# Altium schematic symbol library MULTITESTCARD V1I1.SchLib: 48 symbols (part 1 of 2)
Pins are listed as number, name and electrical type; pins without a type are passive.

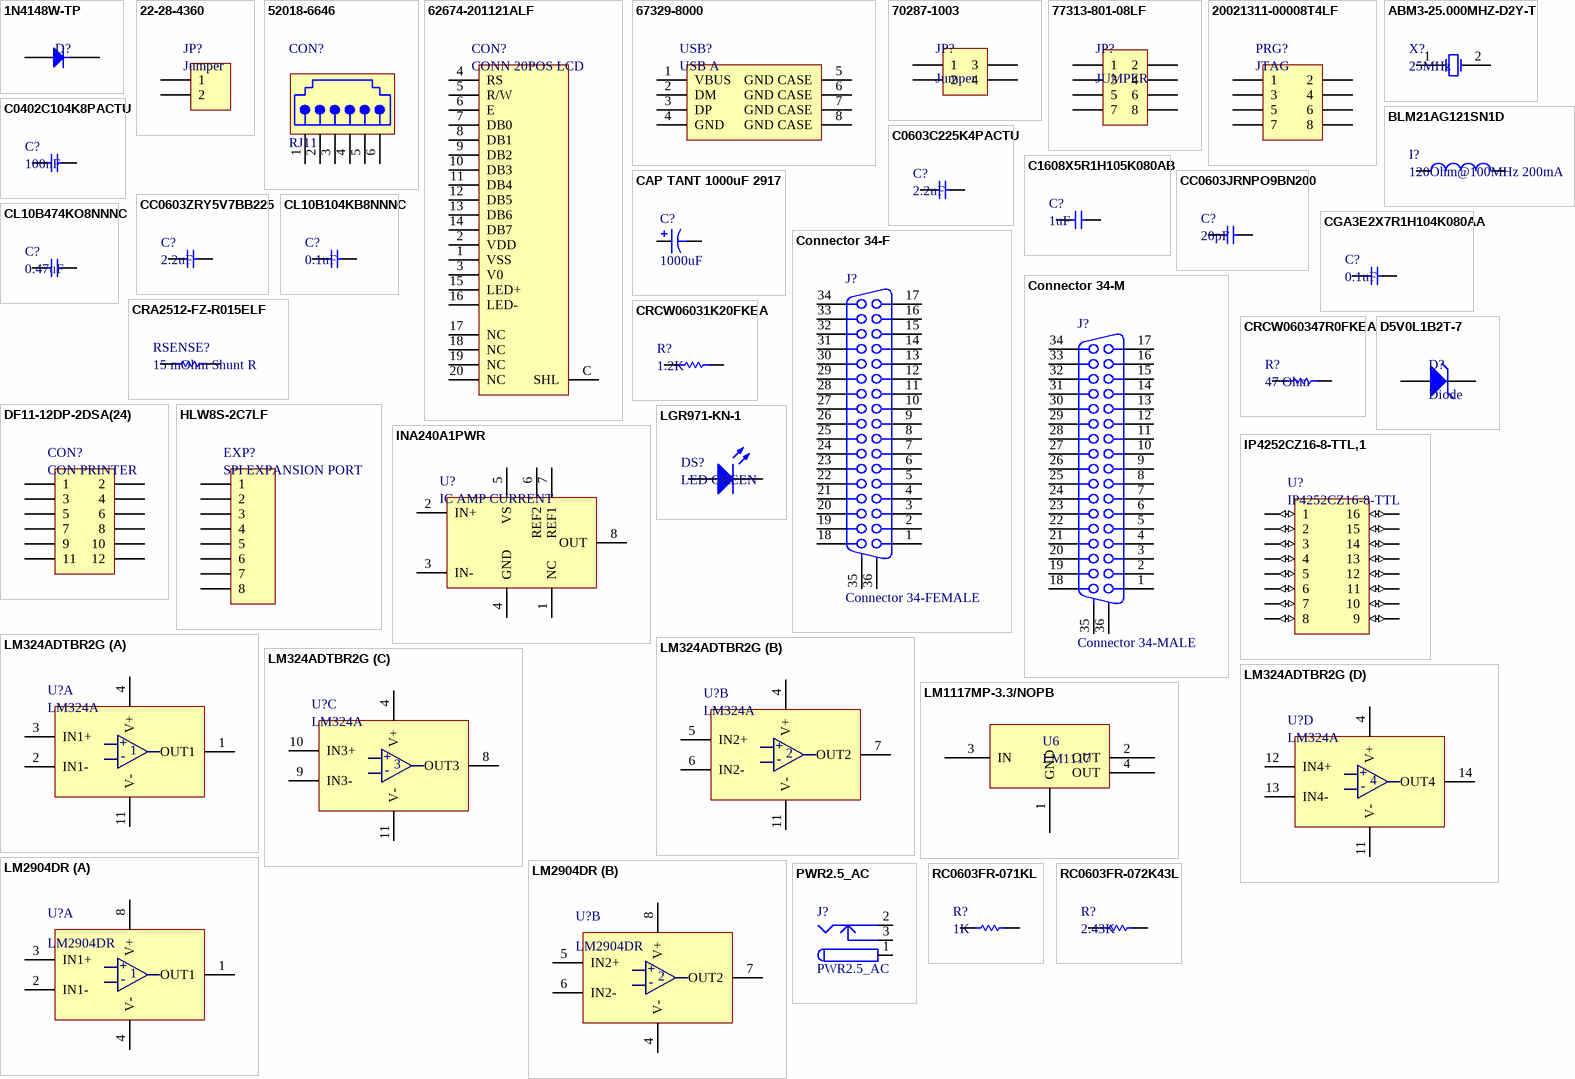
[diagram p0: symbols 1N4148W-TP to RC0603FR-072K43L]

## 1N4148W-TP
designator D?
DIODE SWITCH 100V 0.15A SOD123; Manufacturer: MCC; Manufacturer Part Number: 1N4148W-TP; Max Current Consumption: 1uA; Max Surge Current: 2A; Forward Voltage: 1V; Forward Current: 150mA; Recovery Time: 4ns; Max Reverse Leakage Current: 5uA; Power Dissipation: 400mW; Max Forward Surge Current (Ifsm): 1A; Element Configuration: Single; Polarity: Standard; Capacitance: 4pF; Supplier 1: Digi-Key; Supplier Part Number 1: 1N4148WTPMSCT-ND; Stock 1: 337039; Pricing 1: 1=0.17, 10=0.158, 100=0.066, 500=0.0518, 1000=0.036 (USD); Mount: Surface Mount; Number of Pins: 2; Min Operating Temperature: -65°C; Max Operating Temperature: 150°C; Packaging: Tape and Reel; Package Quantity: 3000; Average Rectified Current: 150mA; Reverse Recovery Time: 4ns; Max Repetitive Reverse Voltage (Vrrm): 100V; Peak Non-Repetitive Surge Current: 2A; Voltage Rating (DC): 100V; Current Rating: 150mA; Output Current: 150mA; Max Reverse Voltage (DC): 100V; Length: 2.85mm; Width: 1.8mm; Height: 1.2mm; Radiation Hardening: No; REACH SVHC: Unknown; Lead Free: Lead Free; ComponentLink1URL: http://www.farnell.com/datasheets/1684829.pdf?src-supplier=Newark; ComponentLink1Description: http://www.farnell.com/datasheets/1684829.pdf?src-supplier=Newark; ComponentLink2URL: http://www.mccsemi.com/up_pdf/1N4148W(SOD123).pdf?src-supplier=Future+Electronics; ComponentLink2Description: http://www.mccsemi.com/up_pdf/1N4148W(SOD123).pdf?src-supplier=Future+Electronics; ComponentLink3URL: http://www.mouser.com/ds/2/258/1N4148W(SOD123)-349435.pdf?src-supplier=Mouser; ComponentLink3Description: http://www.mouser.com/ds/2/258/1N4148W(SOD123)-349435.pdf?src-supplier=Mouser; ComponentLink4URL: http://www.alliedelec.com/images/products/datasheets/bm/MCC/70055519.pdf?src-supplier=Allied+Electronics; ComponentLink4Description: http://www.alliedelec.com/images/products/datasheets/bm/MCC/70055519.pdf?src-supplier=Allied+Electronics; ComponentLink5URL: http://www.mccsemi.com/up_pdf/1N4148W(SOD123).pdf?src-supplier=Digi-Key; ComponentLink5Description: http://www.mccsemi.com/up_pdf/1N4148W(SOD123).pdf?src-supplier=Digi-Key; ComponentLink6URL: http://www.farnell.com/datasheets/1684829.pdf?src-supplier=Element14; ComponentLink6Description: http://www.farnell.com/datasheets/1684829.pdf?src-supplier=Element14
simulation model 1N4149 (DIODE)
footprint SOD123 (SOD-123; 2 Leads; Body 2.7 x 1.6 mm, (LxW) Silk con marca en catodo)
pins: 1 A, 2 K

## 22-28-4360
designator JP?, comment Jumper
JUMPER 1x2 GLOVE, POLYAMIDE, L/FREE, PU, SIZE 6 - More Details; Manufacturer: Molex; Number of Positions: 36; Gender: Male; Contact Resistance: 20mR; Max Voltage Rating (AC): 250V; Current Rating: 4A; Max Voltage Rating (DC): 250.25kV; Pitch: 2.54mm; Glow Wire Compliant: Non-compliant; Supplier 1: Digi-Key; Manufacturer Part Number: 22-28-4360; Stock 1: 9848; Pricing 1: 1=1.02, 10=0.901, 100=0.7775, 500=0.6361, 1000=0.5654, 5000=0.4948, 10000=0.47 (USD); Mount: Through Hole; Contact Plating: Tin; Color: Black; Contact Material: Brass,Bronze; Housing Color: Black; Housing Material: Thermoplastic; Min Operating Temperature: 0°C; Max Operating Temperature: 75°C; Number of Rows: 1; Packaging: Bulk; Termination: Through Hole; Number of Contacts: 36; Orientation: Straight; Package Quantity: 250; Voltage Rating: 250V; Number of Circuits: 36; Max Current Rating: 4A; Voltage Rating (DC): 250V; Length: 91.44mm; Height: 8.38mm; Depth: 2.49mm; Radiation Hardening: No; Lead Free: Lead Free; REACH SVHC: Unknown; Flammability Rating: UL94 V-0; ComponentLink1URL: http://www.molex.com/webdocs/datasheets/pdf/en-us/0022284360_PCB_HEADERS.pdf?src-supplier=Avnet+Europe; ComponentLink1Description: http://www.molex.com/webdocs/datasheets/pdf/en-us/0022284360_PCB_HEADERS.pdf?src-supplier=Avnet+Europe; ComponentLink2URL: http://www.jameco.com/Jameco/Products/ProdDS/1966413.pdf?src-supplier=Jameco; ComponentLink2Description: http://www.jameco.com/Jameco/Products/ProdDS/1966413.pdf?src-supplier=Jameco; ComponentLink3URL: http://www.farnell.com/datasheets/1630959.pdf?src-supplier=Element14; ComponentLink3Description: http://www.farnell.com/datasheets/1630959.pdf?src-supplier=Element14; ComponentLink4URL: http://www.mouser.com/ds/2/276/0022284360_PCB_HEADERS-228390.pdf?src-supplier=Mouser; ComponentLink4Description: http://www.mouser.com/ds/2/276/0022284360_PCB_HEADERS-228390.pdf?src-supplier=Mouser; Supplier Part Number 1: WM50014-36-ND
footprint HDR1X2 (Connector; Header; 2 Position)
pins: 1, 2

## 52018-6646
designator CON?, comment RJ11
CONN MOD JACK R/A 6P6C; Manufacturer: Molex; Manufacturer Part Number: 52018-6646; Shielding: Unshielded; Number of Ports: 1; Number of Positions Loaded: 6; Connector Type: Socket; Gender: Female; Pitch: 2.04mm; Supplier 1: Digi-Key; Supplier Part Number 1: WM5465-ND; Stock 1: 8764; Pricing 1: 1=1.43, 10=1.294, 25=1.2144, 50=1.1616, 100=1.1088, 250=1.0032, 500=0.924, 1000=0.792, 2500=0.7392 (USD); Mount: Through Hole; Contact Material: Bronze; Contact Plating: Gold; Housing Color: Grey; Housing Material: Polyester; Color: Grey; Min Operating Temperature: -40°C; Max Operating Temperature: 80°C; Packaging: Tray; Package Quantity: 250; Termination: SMD/SMT; Number of Contacts: 6; Orientation: Right Angle; Number of Positions: 6; Length: 12.2mm; Depth: 13mm; Width: 13mm; Radiation Hardening: No; REACH SVHC: Unknown; Lead Free: Lead Free; Flammability Rating: UL94 V-0; ComponentLink1URL: https://www.verical.com/server-webapp/html/getDatasheet?partID=791748&src-supplier=Verical; ComponentLink1Description: https://www.verical.com/server-webapp/html/getDatasheet?partID=791748&src-supplier=Verical; ComponentLink2URL: http://www.jameco.com/Jameco/Products/ProdDS/801246.pdf?src-supplier=Jameco; ComponentLink2Description: http://www.jameco.com/Jameco/Products/ProdDS/801246.pdf?src-supplier=Jameco; ComponentLink3URL: http://www.molex.com/pdm_docs/sd/520188245_sd.pdf?src-supplier=Avnet; ComponentLink3Description: http://www.molex.com/pdm_docs/sd/520188245_sd.pdf?src-supplier=Avnet; ComponentLink4URL: http://www.onlinecomponents.com/productFiles/mf-MOL/520188245_sd.pdf?src-supplier=Onlinecomponents.com; ComponentLink4Description: http://www.onlinecomponents.com/productFiles/mf-MOL/520188245_sd.pdf?src-supplier=Onlinecomponents.com; ComponentLink5URL: http://www.mouser.com/ds/2/276/520186646_sd-208425.pdf?src-supplier=Mouser; ComponentLink5Description: http://www.mouser.com/ds/2/276/520186646_sd-208425.pdf?src-supplier=Mouser
signal-integrity model Modular Jack
footprint JACK1.02-2H6C (Connector; PCB Jack, Thru-Hole; 1-Port, 6 Positions, 6 Loaded; Unshielded without Lightpipes; Right Angle)
pins: 1, 2, 3, 4, 5, 6

## 62674-201121ALF
designator CON?, comment CONN 20POS LCD
CONN FFC VERT 20POS 0.50MM SMD; Manufacturer: Amphenol FCI; Manufacturer Part Number: 62674-201121ALF; Actuator Material: Plastic,Glass; Contact Resistance: 30mR; Voltage Rating: 50V; Current Rating: 500mA; Gender: Receptacle; Number of Positions: 20; Insulation Resistance: 100MR; Wire/Cable Type: Straight; Pitch: 1mm; Supplier 1: Digi-Key; Stock 1: 37230; Pricing 1: 1=0.74, 10=0.65, 25=0.6124, 50=0.5868, 100=0.5612, 250=0.5102, 500=0.4592 (USD); Mount: Surface Mount; Contact Material: Bronze; Contact Plating: Gold; Housing Color: Black; Housing Material: Resin; Min Operating Temperature: -55°C; Max Operating Temperature: 85°C; Number of Rows: 1; Packaging: Tape and Reel; Package Quantity: 1000; Termination: Solder; Max Voltage Rating (AC): 50V; Max Voltage Rating (DC): 50V; Number of Contacts: 20; Orientation: Straight; Length: 14.5mm; Depth: 2.95mm; Width: 2.95mm; Radiation Hardening: No; REACH SVHC: No SVHC; Lead Free: Lead Free; Flammability Rating: UL94 V-0; ComponentLink1URL: http://www.mouser.com/ds/2/154/62674-26092.pdf?src-supplier=Mouser; ComponentLink1Description: http://www.mouser.com/ds/2/154/62674-26092.pdf?src-supplier=Mouser; ComponentLink2URL: http://portal.fciconnect.com/Comergent//fci/drawing/62674.pdf?src-supplier=Digi-Key; ComponentLink2Description: http://portal.fciconnect.com/Comergent//fci/drawing/62674.pdf?src-supplier=Digi-Key; ComponentLink3URL: https://cdn.amphenol-icc.com/media/wysiwyg/files/drawing/62674.pdf?src-supplier=Digi-Key; ComponentLink3Description: https://cdn.amphenol-icc.com/media/wysiwyg/files/drawing/62674.pdf?src-supplier=Digi-Key; ComponentLink4URL: http://portal.fciconnect.com/Comergent/fci/drawing/62674.pdf?src-supplier=Avnet; ComponentLink4Description: http://portal.fciconnect.com/Comergent/fci/drawing/62674.pdf?src-supplier=Avnet; ComponentLink5URL: http://portal.fciconnect.com/Comergent/fci/drawing/62674.pdf?src-supplier=Avnet+Asia; ComponentLink5Description: http://portal.fciconnect.com/Comergent/fci/drawing/62674.pdf?src-supplier=Avnet+Asia; Supplier Part Number 1: 609-1207-1-ND
footprint CON20_1X20_DUT_58XF_GLE
pins: 1 VSS, 2 VDD, 3 V0, 4 RS, 5 R/W, 6 E, 7 DB0, 8 DB1, 9 DB2, 10 DB3, 11 DB4, 12 DB5, 13 DB6, 14 DB7, 15 LED+, 16 LED-, 17 NC, 18 NC, 19 NC, 20 NC, C SHL

## 67329-8000
designator USB?, comment USB A
Conn USB RCP 4 POS 1.4mm Solder RA Thru-Hole 4 Terminal 1 Port Tray; Manufacturer: Molex; Manufacturer Part Number: 67329-8000; Gender: Female; Connector Type: USB,Receptacle; Number of Ports: 1; Number of Contacts: 4; Current Rating: 1A; Voltage Rating: 30V; USB Standard: USB 2.0; Supplier 1: Digi-Key; Stock 1: 229; Pricing 1: 1=1.44, 10=1.264, 25=1.1896, 50=1.1398, 100=1.0903, 250=0.9912, 500=0.8921, 1000=0.793, 2500=0.7186 (USD); Mount: Through Hole; Contact Plating: Gold; Contact Material: Bronze; Number of Terminals: 4; Housing Material: Nylon; Color: Black; Housing Color: Black; Min Operating Temperature: 0°C; Max Operating Temperature: 40°C; Packaging: Tray; Termination: Solder; Orientation: Right Angle; Number of Positions: 4; Number of Rows: 2; Number of Circuits: 4; Length: 7mm; Pitch: 1.4mm; Depth: 13.68mm; Radiation Hardening: No; REACH SVHC: Unknown; Lead Free: Lead Free; Flammability Rating: UL94 V-0; ComponentLink1URL: http://www.mouser.com/ds/2/276/0673298000_IO_CONNECTORS-172152.pdf?src-supplier=Mouser; ComponentLink1Description: http://www.mouser.com/ds/2/276/0673298000_IO_CONNECTORS-172152.pdf?src-supplier=Mouser; ComponentLink2URL: http://www.onlinecomponents.com/productFiles/mf-MOL/1691700673298000_io_nectors.pdf?src-supplier=Onlinecomponents.com; ComponentLink2Description: http://www.onlinecomponents.com/productFiles/mf-MOL/1691700673298000_io_nectors.pdf?src-supplier=Onlinecomponents.com; ComponentLink3URL: http://www.molex.com/webdocs/datasheets/pdf/en-us/0673298000_IO_CONNECTORS.pdf?src-supplier=Avnet; ComponentLink3Description: http://www.molex.com/webdocs/datasheets/pdf/en-us/0673298000_IO_CONNECTORS.pdf?src-supplier=Avnet; ComponentLink4URL: http://uk.rs-online.com/webdocs/1380/0900766b81380101.pdf?src-supplier=RSComponents; ComponentLink4Description: http://uk.rs-online.com/webdocs/1380/0900766b81380101.pdf?src-supplier=RSComponents; ComponentLink5URL: https://www.verical.com/server-webapp/html/getDatasheet?partID=792148&src-supplier=Verical; ComponentLink5Description: https://www.verical.com/server-webapp/html/getDatasheet?partID=792148&src-supplier=Verical; Supplier Part Number 1: WM17136-ND
pins: 1 VBUS "Power", 2 DM "-DATA", 3 DP "+DATA", 4 GND (power) "Ground", 5 GND CASE "Shield", 6 GND CASE "Shield", 7 GND CASE "Shield", 8 GND CASE "Shield"

## 70287-1003
designator JP?, comment Jumper
Conn Unshrouded Header HDR 10 POS 2.54mm Solder ST Top Entry Thru-Hole C-Grid® Bag; Manufacturer: Molex; Manufacturer Part Number: 70287-1003; Current Rating: 3A; Voltage Rating: 250V; Contact Resistance: 10mR; Max Current Rating: 5.9A; Number of Positions: 10; Max Voltage Rating (AC): 450V; Glow Wire Compliant: Non-compliant; Supplier 1: Digi-Key; Stock 1: 3524; Pricing 1: 1=0.84, 10=0.698, 100=0.582, 1000=0.4656, 5000=0.4074, 10000=0.387 (USD); Mount: Through Hole; Contact Material: Brass,Bronze; Contact Plating: Tin,Gold; Housing Color: Black; Material: Brass; Housing Material: Thermoplastic; Min Operating Temperature: -40°C; Max Operating Temperature: 120°C; Package Quantity: 2000; Number of Rows: 2; Packaging: Bulk; Termination: Through Hole; Number of Contacts: 10; Orientation: Vertical; Number of Circuits: 10; Length: 12.7mm; Height: 5.72mm; Pitch: 2.54mm; Depth: 8.13mm; REACH SVHC: No SVHC; Halogen Free: Low Halogen; ELV: Compliant; Flammability Rating: UL94 V-0; ComponentLink1URL: http://www.mouser.com/ds/2/276/0702871003_PCB_HEADERS-150054.pdf?src-supplier=Mouser; ComponentLink1Description: http://www.mouser.com/ds/2/276/0702871003_PCB_HEADERS-150054.pdf?src-supplier=Mouser; ComponentLink2URL: http://datasheet.octopart.com/70287-1003-Molex-datasheet-13790154.pdf?src-supplier=Molex; ComponentLink2Description: http://datasheet.octopart.com/70287-1003-Molex-datasheet-13790154.pdf?src-supplier=Molex; ComponentLink3URL: http://sigma.octopart.com/15650698/technical_drawing/Molex-70287-1003.pdf?src-supplier=Molex; ComponentLink3Description: http://sigma.octopart.com/15650698/technical_drawing/Molex-70287-1003.pdf?src-supplier=Molex; ComponentLink4URL: http://datasheet.octopart.com/702871003-Molex-datasheet-8333985.pdf?src-supplier=Molex; ComponentLink4Description: http://datasheet.octopart.com/702871003-Molex-datasheet-8333985.pdf?src-supplier=Molex; ComponentLink5URL: http://datasheet.octopart.com/70287-1003-Molex-datasheet-140187473.pdf?src-supplier=Allied+Electronics; ComponentLink5Description: http://datasheet.octopart.com/70287-1003-Molex-datasheet-140187473.pdf?src-supplier=Allied+Electronics; ComponentLink6URL: http://datasheet.octopart.com/70287-1003-Molex-datasheet-27888229.pdf?src-supplier=Electro+Sonic; ComponentLink6Description: http://datasheet.octopart.com/70287-1003-Molex-datasheet-27888229.pdf?src-supplier=Electro+Sonic; ComponentLink7URL: http://datasheet.octopart.com/70287-1003-Molex-datasheet-62334276.pdf?src-supplier=Electro+Sonic; ComponentLink7Description: http://datasheet.octopart.com/70287-1003-Molex-datasheet-62334276.pdf?src-supplier=Electro+Sonic; ComponentLink8URL: http://datasheet.octopart.com/70287-1003-Molex-datasheet-120155493.pdf?src-supplier=Allied+Electronics; ComponentLink8Description: http://datasheet.octopart.com/70287-1003-Molex-datasheet-120155493.pdf?src-supplier=Allied+Electronics; Supplier Part Number 1: WM20411-ND
footprint HDR2X2 (Connector; Header; 2 Position)
pins: 1, 2, 3, 4

## 77313-801-08LF
designator JP?, comment JUMPER
Headers & Wire Housings 8P STR DR TMT HDR .38 AU .425IN LENGTH; Manufacturer: Amphenol FCI; Manufacturer Part Number: 77313-801-08LF; Number of Contacts: 8; Current Rating: 3A; Voltage Rating: 1.5kV; Insulation Resistance: 5GR; Gender: Male; Connector Type: Male Pin; Pitch: 2.54mm; Row Spacing: 0.1inch; Contact Post Length: 2.41mm; Supplier 1: Digi-Key; Stock 1: 0; Mount: Through Hole; Contact Plating: Gold,GXT; Color: Black; Contact Material: Bronze; Housing Color: Black; Housing Material: Thermoplastic; Min Operating Temperature: -65°C; Max Operating Temperature: 125°C; Number of Rows: 2; Termination: Solder; Package Quantity: 500; Packaging: Bulk; Contact Gender: Male; Number of Positions: 8; Max Voltage Rating (AC): 1.5kV; Orientation: Straight; Series: BERGSTIK®, MezzSelect™, Basics+; Contact Type: Male Pin; Length: 10.16mm; Contact Mating Length: 0.23inch; Depth: 4.83mm; Radiation Hardening: No; Lead Free: Lead Free; Flammability Rating: UL94 V-0; ComponentLink1URL: http://portal.fciconnect.com/Comergent//fci/drawing/77313.pdf?src-supplier=Digi-Key; ComponentLink1Description: http://portal.fciconnect.com/Comergent//fci/drawing/77313.pdf?src-supplier=Digi-Key; ComponentLink2URL: http://portal.fciconnect.com/Comergent/fci/drawing/77313.pdf?src-supplier=Avnet; ComponentLink2Description: http://portal.fciconnect.com/Comergent/fci/drawing/77313.pdf?src-supplier=Avnet; Supplier Part Number 1: 77313-801-08LF-ND
footprint HDR4X2 (Connector; Header; 8 Position)
pins: 1, 2, 3, 4, 5, 6, 7, 8

## 20021311-00008T4LF
designator PRG?, comment JTAG
CONN RCPT 8POS 0.05 GOLD PCB; Manufacturer: Amphenol FCI; Manufacturer Part Number: 20021311-00008T4LF; Contact Resistance: 30mR; Current Rating: 1A; Voltage Rating: 125V; Connector Type: Receptacle,Socket; Number of Positions: 8; Gender: Female; Pitch: 1.27mm; Row Spacing: 0.05inch; Stack Height: 4.3mm; Supplier 1: Digi-Key; Stock 1: 15145; Pricing 1: 1=0.76, 10=0.711, 106=0.5449, 530=0.4738, 1060=0.3909, 5088=0.3435, 10070=0.3198 (USD); Mount: Through Hole; Contact Plating: Gold; Contact Material: Copper Alloy; Color: Black; Housing Material: Plastic; Min Operating Temperature: -40°C; Max Operating Temperature: 85°C; Package Quantity: 106; Number of Rows: 2; Packaging: Rail/Tube; Termination: Solder; Max Voltage Rating (AC): 125V; Number of Contacts: 8; Orientation: Straight; Length: 3.81mm; Depth: 3mm; Radiation Hardening: No; ComponentLink1URL: https://media.digikey.com/pdf/Data%20Sheets/FCI%20PDFs/Minitek%20127_Catalog.pdf?src-supplier=Digi-Key; ComponentLink1Description: https://media.digikey.com/pdf/Data%20Sheets/FCI%20PDFs/Minitek%20127_Catalog.pdf?src-supplier=Digi-Key; ComponentLink2URL: http://portal.fciconnect.com/Comergent/fci/drawing/20021311.pdf?src-supplier=Avnet; ComponentLink2Description: http://portal.fciconnect.com/Comergent/fci/drawing/20021311.pdf?src-supplier=Avnet; ComponentLink3URL: http://portal.fciconnect.com/Comergent/fci/drawing/20021311.pdf?src-supplier=Avnet+Europe; ComponentLink3Description: http://portal.fciconnect.com/Comergent/fci/drawing/20021311.pdf?src-supplier=Avnet+Europe; ComponentLink4URL: http://portal.fciconnect.com/Comergent//fci/drawing/20021311.pdf?src-supplier=Mouser; ComponentLink4Description: http://portal.fciconnect.com/Comergent//fci/drawing/20021311.pdf?src-supplier=Mouser; Supplier Part Number 1: 609-3753-ND
footprint 20021311-00008T4LF (CONN RECEPT 8POS DUAL VERT T/H)
pins: 1, 2, 3, 4, 5, 6, 7, 8

## ABM3-25.000MHZ-D2Y-T
designator X?, comment 25MHz
CRYSTAL 25.0000MHZ 18PF SMD; Manufacturer: Abracon; Manufacturer Part Number: ABM3-25.000MHZ-D2Y-T; Frequency Tolerance: 20ppm; ESR (Equivalent Series Resistance): 30R; Frequency Stability: 30ppm; Supplier 1: Digi-Key; Stock 1: 27285; Pricing 1: 1=0.73, 10=0.605, 50=0.5446, 100=0.484, 500=0.4598 (USD); Mount: Surface Mount; Case/Package: CSMD; Number of Pins: 2; Min Operating Temperature: -40°C; Max Operating Temperature: 85°C; Frequency: 25MHz; Load Capacitance: 18pF; Tolerance: 20ppm; Packaging: Tape and Reel; Package Quantity: 1000; Termination: SMD/SMT; Composition: Ceramic; Series Resistance: 30R; Length: 5mm; Height: 0.051inch; Width: 3.2mm; Depth: 3.2mm; REACH SVHC: Yes; Lead Free: Lead Free; ComponentLink1URL: http://www.abracon.com/Resonators/abm3.pdf?src-supplier=Future+Electronics; ComponentLink1Description: http://www.abracon.com/Resonators/abm3.pdf?src-supplier=Future+Electronics; ComponentLink2URL: https://abracon.com/Resonators/abm3.pdf?src-supplier=Digi-Key; ComponentLink2Description: https://abracon.com/Resonators/abm3.pdf?src-supplier=Digi-Key; ComponentLink3URL: http://www.farnell.com/datasheets/1754353.pdf?src-supplier=Element14; ComponentLink3Description: http://www.farnell.com/datasheets/1754353.pdf?src-supplier=Element14; Supplier Part Number 1: 535-10645-6-ND
footprint ABM3 CRYSTAL (CRYSTAL 25MHZ 18PF SMD (535-10645-1-ND))
pins: 1 OSC1, 2 OSC2

## BLM21AG121SN1D
designator I?, comment 120Ohm@100MHz 200mA
FERRITE BEAD 120 OHM 0805 1LN; Manufacturer: Murata; Manufacturer Part Number: BLM21AG121SN1D; Resistance: 150mR; Impedance: 120R; Tolerance: 25%; Current Rating: 800mA; Max Current Rating: 1A; DC Resistance (DCR): 100mR; Test Frequency: 100MHz; Number of Lines: 1; Shielding: Unshielded; Supplier 1: Digi-Key; Stock 1: 40999; Pricing 1: 1=0.15, 10=0.119, 25=0.0924, 50=0.0766, 100=0.066, 250=0.0528, 500=0.0475, 1000=0.0396 (USD); Case/Package: 0805; Number of Pins: 2; Core Material: Ferrite; Case Code (Metric): 2012; Case Code (Imperial): 0805; Material: Steel,Ferrite; Min Operating Temperature: -55°C; Max Operating Temperature: 125°C; Package Quantity: 1; Packaging: Tape and Reel; Max DC Current: 200mA; Termination: SMD/SMT; DC Current: 200mA; Military Standard: Not; Frequency: 100MHz; Number of Circuits: 1; Length: 2mm; Height: 0.85mm; Width: 1.25mm; Depth: 1.25mm; Radiation Hardening: No; REACH SVHC: No SVHC; Lead Free: Lead Free; ComponentLink1URL: http://www.farnell.com/datasheets/1914683.pdf?src-supplier=Farnell; ComponentLink1Description: http://www.farnell.com/datasheets/1914683.pdf?src-supplier=Farnell; ComponentLink2URL: http://search.murata.co.jp/Ceramy/image/img/PDF/ENG/L0110S0100BLM21A.pdf?src-supplier=Future+Electronics; ComponentLink2Description: http://search.murata.co.jp/Ceramy/image/img/PDF/ENG/L0110S0100BLM21A.pdf?src-supplier=Future+Electronics; ComponentLink3URL: https://www.murata.com/en-us/products/productdata/8796738977822/ENFA0005.pdf?src-supplier=Avnet; ComponentLink3Description: https://www.murata.com/en-us/products/productdata/8796738977822/ENFA0005.pdf?src-supplier=Avnet; ComponentLink4URL: https://www.murata.com/en-us/products/productdata/8796738977822/ENFA0005.pdf?src-supplier=Avnet+Europe; ComponentLink4Description: https://www.murata.com/en-us/products/productdata/8796738977822/ENFA0005.pdf?src-supplier=Avnet+Europe; ComponentLink5URL: https://www.murata.com/en-us/products/productdata/8796738977822/ENFA0005.pdf?src-supplier=Digi-Key; ComponentLink5Description: https://www.murata.com/en-us/products/productdata/8796738977822/ENFA0005.pdf?src-supplier=Digi-Key; ComponentLink6URL: http://www.produktinfo.conrad.com/datenblaetter/1100000-1199999/001172324-da-01-en-DROSSEL_0805_120R_2_0X1_25MM_4000ST.pdf?src-supplier=Conrad; ComponentLink6Description: http://www.produktinfo.conrad.com/datenblaetter/1100000-1199999/001172324-da-01-en-DROSSEL_0805_120R_2_0X1_25MM_4000ST.pdf?src-supplier=Conrad; ComponentLink7URL: http://www.produktinfo.conrad.com/datenblaetter/425000-449999/442447-da-01-en-CHIP_DROSSEL_0805_120R_200MA_2_0X1_25MM.pdf?src-supplier=Conrad; ComponentLink7Description: http://www.produktinfo.conrad.com/datenblaetter/425000-449999/442447-da-01-en-CHIP_DROSSEL_0805_120R_200MA_2_0X1_25MM.pdf?src-supplier=Conrad; Supplier Part Number 1: 490-1038-1-ND
footprint L-0805 (0.079" L x 0.049" W (2.00mm x 1.25mm))
pins: 1, 2

## C0402C104K8PACTU
designator C?, comment 100nF
CAP 100 nF 10 VDC 0402; Manufacturer: KEMET; Manufacturer Part Number: C0402C104K8PACTU; Dielectric Material: Ceramic; Tolerance: 10%; Voltage Rating: 10V; Dielectric: X5R; Dissipation Factor: 5%; Supplier 1: Digi-Key; Stock 1: 1945261; Pricing 1: 1=0.1, 10=0.048, 100=0.0214, 500=0.0153, 1000=0.012, 2500=0.0109, 5000=0.0101 (USD); Mount: Surface Mount,PCB; Case/Package: 0402; Number of Pins: 2; Case Code (Metric): 1005; Case Code (Imperial): 0402; Contact Plating: Tin,Matte; Min Operating Temperature: -55°C; Max Operating Temperature: 85°C; Capacitance: 100nF; Voltage Rating (DC): 10V; Packaging: Tape and Reel; Package Quantity: 1; Termination: SMD/SMT; Voltage: 10V; Length: 1mm; Height: 0.5mm; Width: 0.02inch; Thickness: 0.022inch; Depth: 0.5mm; Lead Pitch: 0.3mm; Radiation Hardening: No; REACH SVHC: No SVHC; Lead Free: Lead Free; ComponentLink1URL: http://www.farnell.com/datasheets/2119991.pdf?src-supplier=Element14; ComponentLink1Description: http://www.farnell.com/datasheets/2119991.pdf?src-supplier=Element14; ComponentLink2URL: https://api.kemet.com/component-edge/download/datasheet/C0402C104K8PACTU.pdf?src-supplier=Digi-Key; ComponentLink2Description: https://api.kemet.com/component-edge/download/datasheet/C0402C104K8PACTU.pdf?src-supplier=Digi-Key; ComponentLink3URL: http://www.farnell.com/datasheets/2314929.pdf?src-supplier=Allied+Electronics; ComponentLink3Description: http://www.farnell.com/datasheets/2314929.pdf?src-supplier=Allied+Electronics; Supplier Part Number 1: 399-3027-6-ND
pins: 1, 2

## C0603C225K4PACTU
designator C?, comment 2.2uF
KEMET - C0603C225K4PACTU - CAP, MLCC, X5R, 2.2UF, 16V, 0603; Dielectric Material: Ceramic; Tolerance: 10%; Dissipation Factor: 5%; Supplier 1: Digi-Key; Manufacturer: KEMET; Manufacturer Part Number: C0603C225K4PACTU; Stock 1: 49901; Pricing 1: 1=0.16, 10=0.112, 100=0.0528, 500=0.037, 1000=0.0307 (USD); Mount: Surface Mount; Case/Package: 0603; Number of Pins: 2; Case Code (Imperial): 0603; Case Code (Metric): 1608; Contact Plating: Tin,Matte; Min Operating Temperature: -55°C; Max Operating Temperature: 85°C; Capacitance: 2.2uF; Voltage Rating: 16V; Voltage Rating (DC): 16V; Packaging: Tape and Reel; Package Quantity: 1; Dielectric: X5R; Termination: SMD/SMT; Voltage: 16V; Length: 1.6mm; Height: 0.8mm; Width: 0.8mm; Thickness: 0.034inch; Depth: 0.8mm; Radiation Hardening: No; REACH SVHC: No SVHC; Lead Free: Lead Free; ComponentLink1URL: http://www.farnell.com/datasheets/2739684.pdf?src-supplier=Farnell; ComponentLink1Description: http://www.farnell.com/datasheets/2739684.pdf?src-supplier=Farnell; ComponentLink2URL: http://www.farnell.com/datasheets/2123797.pdf?src-supplier=Element14; ComponentLink2Description: http://www.farnell.com/datasheets/2123797.pdf?src-supplier=Element14; Supplier Part Number 1: 399-7886-1-ND
footprint CC-0603 (CAP CER NPO 0603)
pins: 1, 2

## C1608X5R1H105K080AB
designator C?, comment 1uF
CAP CER 1uF 50V X5R 0603; Manufacturer: TDK; Manufacturer Part Number: C1608X5R1H105K080AB; Dielectric Material: Ceramic; Tolerance: 10%; Supplier 1: Digi-Key; Stock 1: 233012; Pricing 1: 1=0.25, 10=0.171, 100=0.0865, 500=0.0592, 1000=0.0524 (USD); Mount: Surface Mount; Case/Package: 0603; Number of Pins: 2; Weight: 7.1E-05oz; Case Code (Metric): 1608; Case Code (Imperial): 0603; Min Operating Temperature: -55°C; Max Operating Temperature: 85°C; Capacitance: 1uF; Packaging: Tape and Reel; Voltage Rating: 50V; Package Quantity: 1; Voltage Rating (DC): 50V; Dielectric: X5R; Termination: SMD/SMT; Voltage: 50V; Composition: Ceramic; Length: 1.6mm; Height: 0.8mm; Width: 0.031inch; Thickness: 0.035inch; Depth: 0.8mm; Radiation Hardening: No; REACH SVHC: No SVHC; Lead Free: Lead Free; ComponentLink1URL: http://www.tdk.co.jp/tefe02/e412_c.pdf?src-supplier=Avnet+Europe; ComponentLink1Description: http://www.tdk.co.jp/tefe02/e412_c.pdf?src-supplier=Avnet+Europe; ComponentLink2URL: https://product.tdk.com/info/en/catalog/spec/mlccspec_commercial_general_midvoltage_en.pdf?src-supplier=Digi-Key; ComponentLink2Description: https://product.tdk.com/info/en/catalog/spec/mlccspec_commercial_general_midvoltage_en.pdf?src-supplier=Digi-Key; ComponentLink3URL: http://www.farnell.com/datasheets/1913358.pdf?src-supplier=Element14; ComponentLink3Description: http://www.farnell.com/datasheets/1913358.pdf?src-supplier=Element14; Supplier Part Number 1: 445-7468-6-ND
footprint CC-0603 (CAP CER NPO 0603)
pins: 1, 2

## CAP TANT 1000uF 2917
designator C?, comment 1000uF
CAP Tant Solid 1000uF 6.3V X CASE 10% (7.3 X 4.3 X 4mm) SMD 7343-43 0.6 Ohm 125C T/R; Manufacturer: KEMET; Manufacturer Part Number: T491X108K006AT; Capacitance: 1mF; ESR (Equivalent Series Resistance): 600mR; Polarity: Polar; Life (Hours): 2000Hour; Dissipation Factor: 15%; Supplier 1: Digi-Key; Stock 1: 16395; Pricing 1: 1=4.31, 10=3.881, 100=2.9325 (USD); Mount: Surface Mount; Case/Package: Molded; Case Code (Metric): 7343; Case Code (Imperial): 2917; Min Operating Temperature: -55°C; Max Operating Temperature: 125°C; Tolerance: 10%; Packaging: Tape and Reel; Voltage Rating: 6.3V; Package Quantity: 500; Voltage Rating (DC): 6.3V; Features: General Purpose; Length: 7.3mm; Height: 4mm; Width: 0.169inch; Height - Seated (Max): 0.169inch; Depth: 4.3mm; Radiation Hardening: No; REACH SVHC: No SVHC; Lead Free: Lead Free; ComponentLink1URL: http://www.farnell.com/datasheets/1854511.pdf; ComponentLink1Description: http://www.farnell.com/datasheets/1854511.pdf; ComponentLink2URL: http://www.kemet.com/Lists/ProductCatalog/Attachments/254/KEM_T2005_T491.pdf; ComponentLink2Description: http://www.kemet.com/Lists/ProductCatalog/Attachments/254/KEM_T2005_T491.pdf; ComponentLink3URL: https://api.kemet.com/component-edge/download/datasheet/T491X108K006AT.pdf; ComponentLink3Description: https://api.kemet.com/component-edge/download/datasheet/T491X108K006AT.pdf; Supplier Part Number 1: 399-5123-1-ND
footprint CAP TANTALUM CASE X (CAP TANT 220UF 6.3V 10% 2917 7343_43)
footprint CAP TANTALUM CASE X (CAP TANT 220UF 6.3V 10% 2917 7343_43)
pins: 1, 2

## CC0603JRNPO9BN200
designator C?, comment 20pF
CAP CER 20PF 50V C0G/NPO 0603; Manufacturer: Yageo; Manufacturer Part Number: CC0603JRNPO9BN200; Tolerance: 5%; Dielectric: C0G; Supplier 1: Digi-Key; Stock 1: 223075; Pricing 1: 1=0.1, 10=0.048, 100=0.0214, 500=0.0153, 1000=0.012 (USD); Mount: Surface Mount; Case/Package: 0603; Number of Pins: 2; Weight: 7.1E-05oz; Case Code (Imperial): 0603; Case Code (Metric): 1608; Min Operating Temperature: -55°C; Max Operating Temperature: 125°C; Capacitance: 20pF; Package Quantity: 4000; Voltage Rating (DC): 50V; Packaging: Tape and Reel; Voltage Rating: 50V; Termination: SMD/SMT; Composition: Ceramic; Length: 1.6mm; Width: 0.8mm; Thickness: 0.035inch; Depth: 0.8mm; REACH SVHC: Unknown; Lead Free: Lead Free; ComponentLink1URL: http://www.farnell.com/datasheets/1132289.pdf?src-supplier=Element14; ComponentLink1Description: http://www.farnell.com/datasheets/1132289.pdf?src-supplier=Element14; ComponentLink2URL: http://www.yageo.com/documents/recent/UPY-GP_NP0_16V-to-50V_16.pdf?src-supplier=Digi-Key; ComponentLink2Description: http://www.yageo.com/documents/recent/UPY-GP_NP0_16V-to-50V_16.pdf?src-supplier=Digi-Key; Supplier Part Number 1: 311-1424-6-ND
footprint CC-0603 (CAP CER NPO 0603)
pins: 1, 2

## CC0603ZRY5V7BB225
designator C?, comment 2.2uF
Ceramic Capacitor, 0603 [1608 Metric], 2.2 F, 16 V, +80%, -20%, Y5V, CC Series; Manufacturer: Yageo; Manufacturer Part Number: CC0603ZRY5V7BB225; Tolerance: 80%; Voltage Rating: 16V; Supplier 1: Digi-Key; Stock 1: 11027; Pricing 1: 1=0.16, 10=0.116, 100=0.0545, 500=0.0382, 1000=0.0316 (USD); Mount: Surface Mount; Case/Package: 0603; Weight: 7.1E-05oz; Case Code (Metric): 1608; Case Code (Imperial): 0603; Min Operating Temperature: -30°C; Max Operating Temperature: 85°C; Capacitance: 2.2uF; Packaging: Tape and Reel; Voltage Rating (DC): 16V; Dielectric: Y5V; Termination: SMD/SMT; Composition: Ceramic; Length: 1.6mm; Height: 0.8mm; Width: 0.031inch; Thickness: 0.035inch; Depth: 0.8mm; Radiation Hardening: No; Lead Free: Lead Free; REACH SVHC: Unknown; Halogen Free: Halogen Free; ComponentLink1URL: http://www.yageo.com/documents/recent/UPY-GPHC_Y5V_6.3V-to-50V_5.pdf?src-supplier=Avnet; ComponentLink1Description: http://www.yageo.com/documents/recent/UPY-GPHC_Y5V_6.3V-to-50V_5.pdf?src-supplier=Avnet; ComponentLink2URL: http://www.yageo.com/documents/recent/UPY-GPHC_Y5V_6.3V-to-50V_5_revised.pdf?src-supplier=Future+Electronics; ComponentLink2Description: http://www.yageo.com/documents/recent/UPY-GPHC_Y5V_6.3V-to-50V_5_revised.pdf?src-supplier=Future+Electronics; ComponentLink3URL: http://www.farnell.com/datasheets/1132289.pdf?src-supplier=Element14; ComponentLink3Description: http://www.farnell.com/datasheets/1132289.pdf?src-supplier=Element14; Supplier Part Number 1: 311-3416-6-ND
footprint CC-0603 (CAP CER NPO 0603)
pins: 1, 2

## CGA3E2X7R1H104K080AA
designator C?, comment 0.1uF
CAP CER 0.1uF 50V X7R 0603; Manufacturer: TDK; Manufacturer Part Number: CGA3E2X7R1H104K080AA; Capacitance: 100nF; Tolerance: 10%; Supplier 1: Digi-Key; Stock 1: 11580568; Pricing 1: 1=0.1, 10=0.075, 100=0.0335, 500=0.0239, 1000=0.0188 (USD); Mount: Surface Mount; Case/Package: 0603; Weight: 7.1E-05oz; Case Code (Imperial): 0603; Case Code (Metric): 1608; Min Operating Temperature: -55°C; Max Operating Temperature: 125°C; Packaging: Tape and Reel; Package Quantity: 1; Voltage Rating: 50V; Dielectric: X7R; Voltage Rating (DC): 50V; Termination: SMD/SMT; Voltage: 50V; Composition: Ceramic; Length: 1.6mm; Height: 0.8mm; Width: 0.8mm; Thickness: 0.035inch; Depth: 0.8mm; Ratings: AEC-Q200; Radiation Hardening: No; REACH SVHC: No SVHC; Lead Free: Lead Free; ComponentLink1URL: http://www.farnell.com/datasheets/1796654.pdf?src-supplier=Mouser; ComponentLink1Description: http://www.farnell.com/datasheets/1796654.pdf?src-supplier=Mouser; ComponentLink2URL: http://product.tdk.com/capacitor/mlcc/en/documents/mlccspec_automotive_general_midvoltage_en.pdf?src-supplier=Future+Electronics; ComponentLink2Description: http://product.tdk.com/capacitor/mlcc/en/documents/mlccspec_automotive_general_midvoltage_en.pdf?src-supplier=Future+Electronics; ComponentLink3URL: http://www.farnell.com/datasheets/1735392.pdf?src-supplier=Element14; ComponentLink3Description: http://www.farnell.com/datasheets/1735392.pdf?src-supplier=Element14; ComponentLink4URL: https://www.verical.com/server-webapp/html/getDatasheet?partID=715867&src-supplier=Verical; ComponentLink4Description: https://www.verical.com/server-webapp/html/getDatasheet?partID=715867&src-supplier=Verical; ComponentLink5URL: http://www.farnell.com/datasheets/1796654.pdf?src-supplier=Newark; ComponentLink5Description: http://www.farnell.com/datasheets/1796654.pdf?src-supplier=Newark; Supplier Part Number 1: 445-5666-6-ND
footprint CC-0603 (CAP CER NPO 0603)
pins: 1, 2

## CL10B104KB8NNNC
designator C?, comment 0.1uF
Capacitor: ceramic; MLCC; 100nF; 50V; X7R; ±10%; SMD; 0603; -55÷125°C; Manufacturer: Samsung; Manufacturer Part Number: CL10B104KB8NNNC; Supplier 1: Digi-Key; Stock 1: 8941774; Pricing 1: 1=0.1, 10=0.028, 100=0.0123, 500=0.0088, 1000=0.0069 (USD); Mount: Surface Mount; Case/Package: 0603; Case Code (Metric): 1608; Case Code (Imperial): 0603; Material: Ceramic; Contact Plating: Tin; Min Operating Temperature: -55°C; Max Operating Temperature: 125°C; Tolerance: 10%; Package Quantity: 1; Packaging: Tape and Reel; Capacitance: 100nF; Dielectric: X7R; Voltage Rating: 50V; Voltage: 50V; Voltage Rating (DC): 50V; Length: 1.6mm; Height: 0.8mm; Width: 0.031inch; Depth: 0.8mm; Thickness: 0.035inch; Radiation Hardening: No; Lead Free: Lead Free; ComponentLink1URL: http://www.samsungsem.com/kr/support/product-search/mlcc/CL10B104KB8NNNC.jsp?src-supplier=Digi-Key; ComponentLink1Description: http://www.samsungsem.com/kr/support/product-search/mlcc/CL10B104KB8NNNC.jsp?src-supplier=Digi-Key; ComponentLink2URL: https://www.verical.com/server-webapp/html/getDatasheet?partID=89097&src-supplier=Verical; ComponentLink2Description: https://www.verical.com/server-webapp/html/getDatasheet?partID=89097&src-supplier=Verical; ComponentLink3URL: https://produktinfo.conrad.com/datenblaetter/450000-474999/456651-da-01-en-VS_KONDENSATOR_0605.pdf?src-supplier=Conrad; ComponentLink3Description: https://produktinfo.conrad.com/datenblaetter/450000-474999/456651-da-01-en-VS_KONDENSATOR_0605.pdf?src-supplier=Conrad; Supplier Part Number 1: 1276-1000-1-ND
footprint CC-0603 (CAP CER NPO 0603)
pins: 1, 2

## CL10B474KO8NNNC
designator C?, comment 0.47uF
Cap Ceramic 0.47uF 16V X7R 10% SMD 0603 125C T/R; Manufacturer: Samsung; Manufacturer Part Number: CL10B474KO8NNNC; Capacitance: 470nF; Supplier 1: Digi-Key; Stock 1: 123146; Pricing 1: 1=0.1, 10=0.077, 100=0.0342, 500=0.0244, 1000=0.0192 (USD); Mount: Surface Mount; Case/Package: 0603; Contact Plating: Tin; Case Code (Metric): 1608; Case Code (Imperial): 0603; Material: Ceramic; Min Operating Temperature: -55°C; Max Operating Temperature: 125°C; Packaging: Tape and Reel; Package Quantity: 1; Tolerance: 10%; Voltage Rating: 16V; Dielectric: X7R; Voltage: 16V; Voltage Rating (DC): 16V; Length: 1.6mm; Height: 0.8mm; Width: 0.031inch; Thickness: 0.035inch; Depth: 0.8mm; Radiation Hardening: No; Lead Free: Lead Free; ComponentLink1URL: https://www.verical.com/server-webapp/html/getDatasheet?partID=354055&src-supplier=Verical; ComponentLink1Description: https://www.verical.com/server-webapp/html/getDatasheet?partID=354055&src-supplier=Verical; ComponentLink2URL: http://www1.futureelectronics.com/doc/SAMSUNG/CLSERIES.pdf?src-supplier=Future+Electronics; ComponentLink2Description: http://www1.futureelectronics.com/doc/SAMSUNG/CLSERIES.pdf?src-supplier=Future+Electronics; ComponentLink3URL: http://www.rapidonline.com/pdf/71-0319.pdf?src-supplier=Rapid+Electronics; ComponentLink3Description: http://www.rapidonline.com/pdf/71-0319.pdf?src-supplier=Rapid+Electronics; ComponentLink4URL: https://www.distrelec.biz/Web/Downloads/_e/ng/MLCC_CatalogDownload2013_ENG.pdf?mime=application%2Fpdf&src-supplier=Distrelec; ComponentLink4Description: https://www.distrelec.biz/Web/Downloads/_e/ng/MLCC_CatalogDownload2013_ENG.pdf?mime=application%2Fpdf&src-supplier=Distrelec; ComponentLink5URL: https://produktinfo.conrad.com/datenblaetter/450000-474999/456266-da-01-en-VS_KONDENSATOR_0603.pdf?src-supplier=Conrad; ComponentLink5Description: https://produktinfo.conrad.com/datenblaetter/450000-474999/456266-da-01-en-VS_KONDENSATOR_0603.pdf?src-supplier=Conrad; Supplier Part Number 1: 1276-1062-6-ND
footprint CC-0603 (CAP CER NPO 0603)
pins: 1, 2

## Connector 34-F
designator J?, comment Connector 34-FEMALE
Plug Assembly, 34-Pin Connector; Package Information: Latest Revision: F; Positions: 34; Gender: Receptacle Header; DIGI: DHB-RA34-R131N(DDK); Published: 15-Jun-2001; Revision: 17-Jul-2002: Re-released for DXP Platform.; Datasheet: (3-Apr-1991); Package Reference: 174207; Publisher: Altium Limited; Orientation: Right Angle
footprint conector imp F
signal-integrity model Connector
footprint Conector 34
pins: 1, 2, 3, 4, 5, 6, 7, 8, 9, 10, 11, 12, 13, 14, 15, 16, 17, 18, 19, 20, 21, 22, 23, 24, 25, 26, 27, 28, 29, 30, 31, 32, 33, 34, 35 MH1, 36 MH2

## Connector 34-M
designator J?, comment Connector 34-MALE
Plug Assembly, 34-Pin Connector; Package Information: Latest Revision: F; Positions: 34; Gender: Receptacle Header; DIGI: DHB-RA34-R131N(DDK); Published: 15-Jun-2001; Revision: 17-Jul-2002: Re-released for DXP Platform.; Datasheet: (3-Apr-1991); Package Reference: 174207; Publisher: Altium Limited; Orientation: Right Angle
footprint conector imp F
signal-integrity model Connector
footprint Conector 34
pins: 1, 2, 3, 4, 5, 6, 7, 8, 9, 10, 11, 12, 13, 14, 15, 16, 17, 18, 19, 20, 21, 22, 23, 24, 25, 26, 27, 28, 29, 30, 31, 32, 33, 34, 35 MH1, 36 MH2

## CRA2512-FZ-R015ELF
designator RSENSE?, comment 15 mOhm Shunt R
Res 2512 0.015 Ohm 1% 3W 75ppm/C Molded SMD SMD T/R; Manufacturer: Bourns; Manufacturer Part Number: CRA2512-FZ-R015ELF; Resistance: 15mR; Temperature Coefficient: 75ppm/°C; Supplier 1: Digi-Key; Stock 1: 25516; Pricing 1: 1=0.69, 10=0.578, 25=0.4956, 50=0.446, 100=0.3881, 250=0.3468, 500=0.2808, 1000=0.2271 (USD); Mount: Surface Mount; Case/Package: 2512; Case Code (Metric): 6432; Case Code (Imperial): 2512; Min Operating Temperature: -55°C; Max Operating Temperature: 170°C; Power Rating: 3W; Tolerance: 1%; Packaging: Tape and Reel; Package Quantity: 1; Composition: Metal Film,Thick Film; Number of Terminations: 2; Military Standard: Not; Termination: Solder; Max Power Dissipation: 3W; Features: Moisture Resistant; Length: 0.254inch; Height: 0.035inch; Width: 0.126inch; Depth: 3.2mm; REACH SVHC: No SVHC; Lead Free: Lead Free; ComponentLink1URL: http://www.bourns.com/docs/Product-Datasheets/CRA.pdf?src-supplier=Digi-Key; ComponentLink1Description: http://www.bourns.com/docs/Product-Datasheets/CRA.pdf?src-supplier=Digi-Key; ComponentLink2URL: https://www.bourns.com/docs/Product-Datasheets/CRA.pdf?src-supplier=Digi-Key; ComponentLink2Description: https://www.bourns.com/docs/Product-Datasheets/CRA.pdf?src-supplier=Digi-Key; ComponentLink3URL: http://uk.rs-online.com/webdocs/0ddc/0900766b80ddce06.pdf?src-supplier=RSComponents; ComponentLink3Description: http://uk.rs-online.com/webdocs/0ddc/0900766b80ddce06.pdf?src-supplier=RSComponents; ComponentLink4URL: http://www.produktinfo.conrad.com/datenblaetter/1000000-1099999/001055548-da-01-en-WID_CRA2512_FZ_R015ELF__0_015_OHM_3W_1_.pdf?src-supplier=Conrad; ComponentLink4Description: http://www.produktinfo.conrad.com/datenblaetter/1000000-1099999/001055548-da-01-en-WID_CRA2512_FZ_R015ELF__0_015_OHM_3W_1_.pdf?src-supplier=Conrad; Supplier Part Number 1: CRA2512-FZ-R015ELFDKR-ND
footprint R-2512 (RES 2512)
pins: 1, 2

## CRCW06031K20FKEA
designator R?, comment 1.2K
RES SMD 1.2K OHM 1% 1/10W 0603; Manufacturer: Vishay; Manufacturer Part Number: CRCW06031K20FKEA; Resistance: 1.2kR; Power Rating: 100mW; Voltage Rating: 75V; Temperature Coefficient: 100ppm/°C; Supplier 1: Digi-Key; Stock 1: 93302; Pricing 1: 1=0.1, 10=0.036, 100=0.0146, 1000=0.0065, 2500=0.0057 (USD); Mount: Surface Mount; Case/Package: 0603; Weight: 7.1E-05oz; Case Code (Metric): 1608; Case Code (Imperial): 0603; Contact Plating: Tin; Min Operating Temperature: -55°C; Max Operating Temperature: 155°C; Tolerance: 1%; Packaging: Tape and Reel; Composition: Thick Film; Military Standard: Not; Termination: SMD/SMT; Voltage Rating (DC): 75V; Package Quantity: 10; Number of Terminations: 2; Max Power Dissipation: 100mW; Features: Automotive AEC-Q200; Length: 1.55mm; Height: 0.45mm; Width: 0.033inch; Depth: 0.85mm; Radiation Hardening: No; REACH SVHC: Unknown; Lead Free: Lead Free; ComponentLink1URL: http://www.vishay.com/docs/20035/dcrcwe3.pdf?src-supplier=Digi-Key; ComponentLink1Description: http://www.vishay.com/docs/20035/dcrcwe3.pdf?src-supplier=Digi-Key; ComponentLink2URL: http://uk.rs-online.com/webdocs/0d98/0900766b80d98afc.pdf?src-supplier=RSComponents; ComponentLink2Description: http://uk.rs-online.com/webdocs/0d98/0900766b80d98afc.pdf?src-supplier=RSComponents; ComponentLink3URL: https://www.alliedelec.com/m/d/0c934d6939ccefa68dbe0b96d821c8cf.pdf?src-supplier=Allied+Electronics; ComponentLink3Description: https://www.alliedelec.com/m/d/0c934d6939ccefa68dbe0b96d821c8cf.pdf?src-supplier=Allied+Electronics; ComponentLink4URL: http://www.alliedelec.com/m/d/0c934d6939ccefa68dbe0b96d821c8cf.pdf?src-supplier=Allied+Electronics; ComponentLink4Description: http://www.alliedelec.com/m/d/0c934d6939ccefa68dbe0b96d821c8cf.pdf?src-supplier=Allied+Electronics; ComponentLink5URL: https://www.distrelec.biz/Web/Downloads/a_/en/flD-CRCW-e3_data_en.pdf?mime=application%2Fpdf&src-supplier=Distrelec; ComponentLink5Description: https://www.distrelec.biz/Web/Downloads/a_/en/flD-CRCW-e3_data_en.pdf?mime=application%2Fpdf&src-supplier=Distrelec; ComponentLink6URL: http://www.farnell.com/datasheets/2045673.pdf?src-supplier=Element14; ComponentLink6Description: http://www.farnell.com/datasheets/2045673.pdf?src-supplier=Element14; ComponentLink7URL: http://www.mouser.com/ds/2/427/dcrcwe3-109170.pdf?src-supplier=Mouser; ComponentLink7Description: http://www.mouser.com/ds/2/427/dcrcwe3-109170.pdf?src-supplier=Mouser; ComponentLink8URL: http://www.farnell.com/datasheets/2111203.pdf?src-supplier=Element14; ComponentLink8Description: http://www.farnell.com/datasheets/2111203.pdf?src-supplier=Element14; Supplier Part Number 1: 541-1.20KHCT-ND
footprint R-0603 (RES 0603)
pins: 1, 2

## CRCW060347R0FKEA
designator R?, comment 47 Ohm
RES SMD 47 OHM 1% 1/10W 0603; Manufacturer: Vishay; Manufacturer Part Number: CRCW060347R0FKEA; Resistance: 47R; Power Rating: 100mW; Voltage Rating: 75V; Temperature Coefficient: 100ppm/°C; Supplier 1: Digi-Key; Stock 1: 63921; Pricing 1: 1=0.1, 10=0.036, 100=0.0146, 1000=0.0065, 2500=0.0057 (USD); Mount: Surface Mount; Case/Package: 0603; Number of Pins: 2; Weight: 7.1E-05oz; Case Code (Metric): 1608; Case Code (Imperial): 0603; Contact Plating: Tin; Min Operating Temperature: -55°C; Max Operating Temperature: 155°C; Tolerance: 1%; Packaging: Tape and Reel; Package Quantity: 10; Termination: SMD/SMT; Military Standard: Not; Composition: Thick Film; Max Power Dissipation: 100mW; Number of Terminations: 2; Voltage Rating (DC): 75V; Features: Automotive AEC-Q200; Length: 1.55mm; Height: 0.45mm; Width: 0.033inch; Depth: 0.85mm; Radiation Hardening: No; REACH SVHC: Unknown; Lead Free: Lead Free; ComponentLink1URL: http://www.vishay.com/docs/20035/dcrcwe3.pdf?src-supplier=Avnet; ComponentLink1Description: http://www.vishay.com/docs/20035/dcrcwe3.pdf?src-supplier=Avnet; ComponentLink2URL: http://www.farnell.com/datasheets/2111203.pdf?src-supplier=Element14; ComponentLink2Description: http://www.farnell.com/datasheets/2111203.pdf?src-supplier=Element14; ComponentLink3URL: https://www.alliedelec.com/m/d/0c934d6939ccefa68dbe0b96d821c8cf.pdf?src-supplier=Allied+Electronics; ComponentLink3Description: https://www.alliedelec.com/m/d/0c934d6939ccefa68dbe0b96d821c8cf.pdf?src-supplier=Allied+Electronics; ComponentLink4URL: http://www.farnell.com/datasheets/2046716.pdf?src-supplier=Element14; ComponentLink4Description: http://www.farnell.com/datasheets/2046716.pdf?src-supplier=Element14; ComponentLink5URL: http://www.vishay.com/docs/20035/dcrcwe3.pdf?src-supplier=Digi-Key; ComponentLink5Description: http://www.vishay.com/docs/20035/dcrcwe3.pdf?src-supplier=Digi-Key; ComponentLink6URL: http://uk.rs-online.com/webdocs/0d98/0900766b80d98afc.pdf?src-supplier=RSComponents; ComponentLink6Description: http://uk.rs-online.com/webdocs/0d98/0900766b80d98afc.pdf?src-supplier=RSComponents; ComponentLink7URL: http://www.mouser.com/ds/2/427/dcrcwe3-109170.pdf?src-supplier=Mouser; ComponentLink7Description: http://www.mouser.com/ds/2/427/dcrcwe3-109170.pdf?src-supplier=Mouser; ComponentLink8URL: http://www.farnell.com/datasheets/1697337.pdf?src-supplier=Element14; ComponentLink8Description: http://www.farnell.com/datasheets/1697337.pdf?src-supplier=Element14; ComponentLink9URL: https://www.distrelec.biz/Web/Downloads/a_/en/flD-CRCW-e3_data_en.pdf?mime=application%2Fpdf&src-supplier=Distrelec; ComponentLink9Description: https://www.distrelec.biz/Web/Downloads/a_/en/flD-CRCW-e3_data_en.pdf?mime=application%2Fpdf&src-supplier=Distrelec; Supplier Part Number 1: 541-47.0HDKR-ND
footprint R-0603 (RES 0603)
pins: 1, 2

## D5V0L1B2T-7
designator D?, comment Diode
TVS DIODE 5VWM 12.5VC SOD523; Manufacturer: Diodes; Manufacturer Part Number: D5V0L1B2T-7; Max Current Consumption: 5uA; Direction: Bidirectional; Capacitance: 20pF; Number of Bidirectional Channels: 1; Reverse Standoff Voltage: 5V; Min Breakdown Voltage: 6V; Clamping Voltage: 14V; Peak Pulse Power: 84W; Power Line Protection: No; ESD Protection: Yes; Max Reverse Leakage Current: 100nA; Test Current: 1mA; Element Configuration: Single; Breakdown Voltage: 8V; Max Surge Current: 6A; Supplier 1: Digi-Key; Supplier Part Number 1: UCLAMP0501HCT-ND; Supplier 2: Digi-Key; Supplier Part Number 2: D5V0L1B2T-7DICT-ND; Stock 2: 29498; Pricing 2: 1=0.29, 10=0.238, 100=0.0973, 500=0.0812, 1000=0.0564 (USD); Mount: Surface Mount; Number of Pins: 2; Contact Plating: Tin,Matte; Min Operating Temperature: -65°C; Max Operating Temperature: 150°C; Package Quantity: 3000; Packaging: Tape and Reel; Polarity: Bidirectional; Termination: SMD/SMT; Leakage Current: 100nA; Working Voltage: 5V; Max Power Dissipation: 84W; Peak Pulse Current: 6A; Resistor Type: Zener; Length: 1.3mm; Width: 0.9mm; Height: 0.65mm; Depth: 0.9mm; Radiation Hardening: No; Lead Free: Lead Free; REACH SVHC: No SVHC; ComponentLink1URL: https://www.diodes.com/assets/Datasheets/D5V0L1B2T.pdf?src-supplier=Digi-Key; ComponentLink1Description: https://www.diodes.com/assets/Datasheets/D5V0L1B2T.pdf?src-supplier=Digi-Key; ComponentLink2URL: http://www.mouser.com/ds/2/115/D5V0L1B2T-241526.pdf?src-supplier=Mouser; ComponentLink2Description: http://www.mouser.com/ds/2/115/D5V0L1B2T-241526.pdf?src-supplier=Mouser
footprint SOD-523 (DIODE SC-79 SOD-523)
pins: 1 A, 2 K

## DF11-12DP-2DSA(24)
designator CON?, comment CON PRINTER
CONN HEADER VERT 12POS 2MM; Manufacturer: Hirose; Manufacturer Part Number: DF11-12DP-2DSA(24); Number of Positions: 12; Gender: Male; Connector Type: Male Pin; Current Rating: 2A; Voltage Rating: 250V; Insulation Resistance: 1GR; Row Spacing: 0.079inch; Supplier 1: Digi-Key; Stock 1: 1827; Pricing 1: 1=0.61, 10=0.57, 100=0.437, 500=0.38, 1000=0.3135 (USD); Mount: Through Hole; Color: Black; Housing Color: Black; Housing Material: Polyamide; Contact Plating: Tin,Gold; Contact Material: Brass,Copper Alloy,Tin; Number of Rows: 2; Package Quantity: 34; Packaging: Rail/Tube; Termination: Solder; Number of Contacts: 12; Contact Gender: Male; Orientation: Straight; Fastening Type: Detent; Pitch: 2mm; Contact Mating Length: 0.118inch; Radiation Hardening: No; Lead Free: Lead Free; REACH SVHC: No SVHC; Flammability Rating: UL94 V-0; ComponentLink1URL: http://uk.rs-online.com/webdocs/14ef/0900766b814efacf.pdf?src-supplier=RSComponents; ComponentLink1Description: http://uk.rs-online.com/webdocs/14ef/0900766b814efacf.pdf?src-supplier=RSComponents; ComponentLink2URL: https://www.distrelec.biz/Web/Downloads/_t/ds/DF11serie_eng_tds.pdf?mime=application%2Fpdf&src-supplier=Distrelec; ComponentLink2Description: https://www.distrelec.biz/Web/Downloads/_t/ds/DF11serie_eng_tds.pdf?mime=application%2Fpdf&src-supplier=Distrelec; Supplier Part Number 1: H10233-ND
footprint Header 2x6 B12B PHDS
pins: 1, 2, 3, 4, 5, 6, 7, 8, 9, 10, 11, 12